# Altium integrated library TI Interface Display.IntLib: 133 symbols (part 5 of 16)
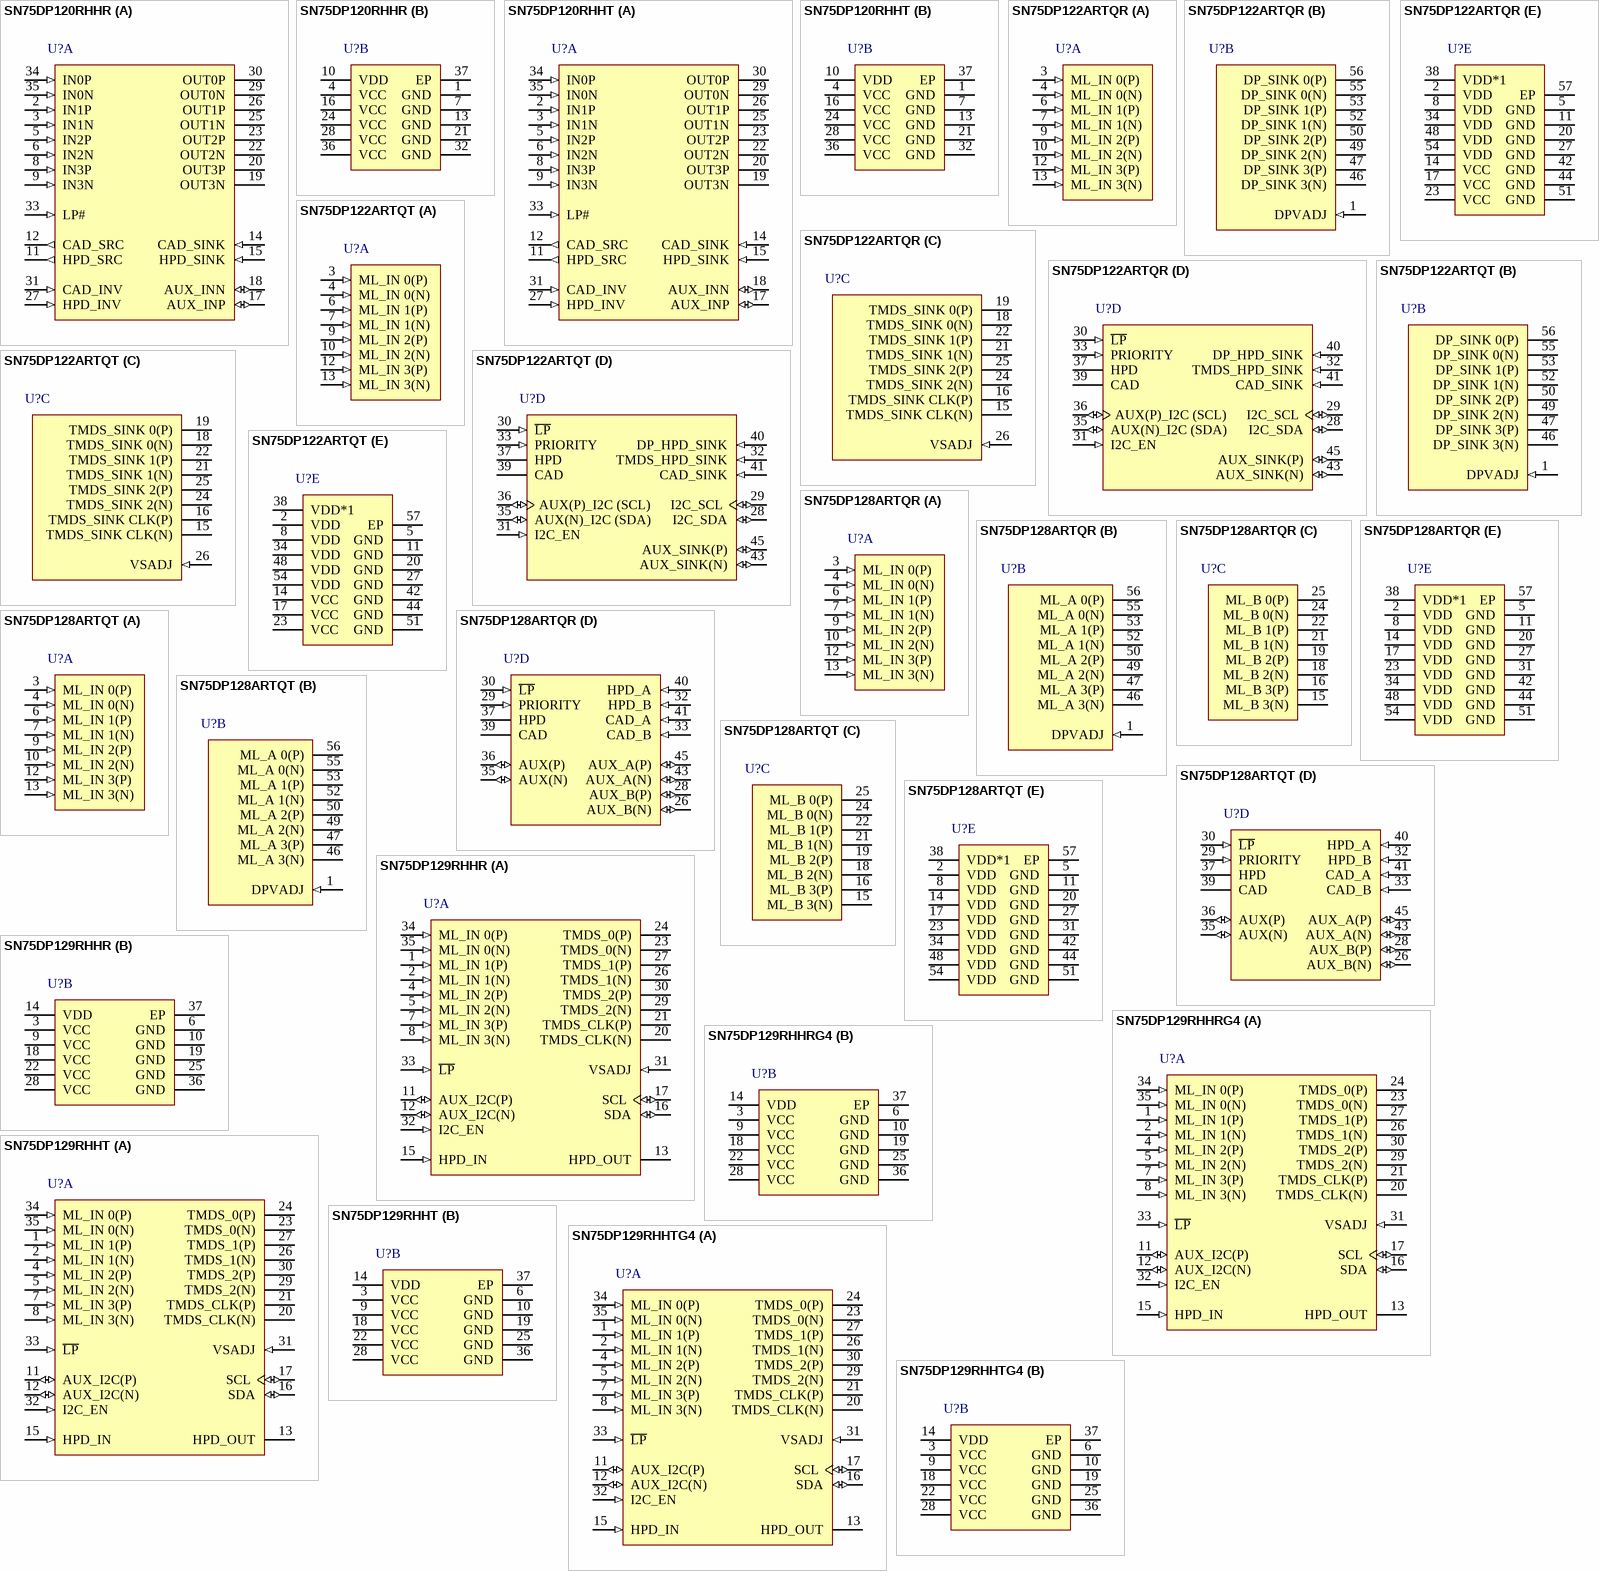
[diagram p18: symbols SN75DP120RHHR to SN75DP129RHHTG4]

## SN75DP120RHHR
designator U?
Display Port 1:1 Dual-Mode Repeater with 1 Dual Mode Output, 0 to +85 degC, 36-pin VQFN (RHH), Green (RoHS & no Sb/Br); Manufacturer: Texas Instruments; PartNumber: SN75DP120RHHR; No. of DisplayPort Dual Mode Inputs: 1; DatasheetVersion: SLLSE08; PackageVersion: revE,  Jun-2011; PackageReference: RHH36-4100X4100TP; PackageDescription: 36-Pin Plastic Quad Flatpack No-Lead, 6 x 6 mm Body, 0.5 mm Pitch; Supplier 1: Digi-Key; Supplier Part Number 1: 296-25399-2-ND; Supplier 2: Digi-Key; Supplier Part Number 2: 296-25399-1-ND; Supplier 3: Digi-Key; Supplier Part Number 3: 296-25399-6-ND; Supplier 4: Newark; Supplier Part Number 4: 55R6878; Supplier 5: Mouser; Supplier Part Number 5: 595-SN75DP120RHHR; No. of DisplayPort Dual Mode Outputs: 1; SubFamily: DisplayPort; Mounting Technology: Surface Mount; Code_JEDEC: MO-220; ComponentLink1Description: Datasheet; ComponentLink1URL: http://www.ti.com/general/docs/lit/getliterature.tsp?genericPartNumber=SN75DP120&fileType=pdf
footprint RHH36-4100X4100TP (QFN, 36-Leads, Body 6x6mm, Pitch 0.5mm, Thermal Pad 4.15x4.15mm, TI Recommended)
part A pins: 2 IN1P (in) "DisplayPort Main Link Channel 1 Differential Input", 3 IN1N (in) "DisplayPort Main Link Channel 1 Differential Input", 5 IN2P (in) "DisplayPort Main Link Channel 2 Differential Input", 6 IN2N (in) "DisplayPort Main Link Channel 2 Differential Input", 8 IN3P (in) "DisplayPort Main Link Channel 3 Differential Input", 9 IN3N (in) "DisplayPort Main Link Channel 3 Differential Input", 11 HPD_SRC (out) "Hot Plug Detect Output to the DisplayPort Source. The polarity and output level of HPD_SRC is set by the HPD_INV pin", 12 CAD_SRC (out) "Cable Adapter Detect Output to the DisplayPort Source. The polarity of CAD_SRC is set by the CAD_INV pin.", 14 CAD_SINK (in) "DisplayPort Cable Adapter Detect Input; No pulldown resistor on this pin.", 15 HPD_SINK (in) "Hot Plug Detect Input from DisplayPort Sink", 17 AUX_INP (io) "Bidirectional DisplayPort Auxiliary Data Line", 18 AUX_INN (io) "Bidirectional DisplayPort Auxiliary Data Line", 19 OUT3N (hiz) "DisplayPort Main Link Channel 3 Differential Output", 20 OUT3P (hiz) "DisplayPort Main Link Channel 3 Differential Output", 22 OUT2N (hiz) "DisplayPort Main Link Channel 2 Differential Output", 23 OUT2P (hiz) "DisplayPort Main Link Channel 2 Differential Output", 25 OUT1N (hiz) "DisplayPort Main Link Channel 1 Differential Output", 26 OUT1P (hiz) "DisplayPort Main Link Channel 1 Differential Output", 27 HPD_INV (in) "HPD output polarity Inversion pulldown When HPD_INV = H; HPD_SRC is set to INVERSE logic of HPD_SINK, and HPD_SRC VOH is fixed at 0.8V to 1.1V, i.e. not referenced to VDD When HPD_INV = L; HPD_SRC is set to NON-INVERSE logic (See Datasheet)", 29 OUT0N (hiz) "DisplayPort Main Link Channel 0 Differential Output", 30 OUT0P (hiz) "DisplayPort Main Link Channel 0 Differential Output", 31 CAD_INV (in) "CAD output polarity Inversion pulldown When CAD_INV = H; CAD_SRC is INVERSE logic of CAD_SINK When CAD_INV = L; CAD_SRC is NON-INVERSE logic of CAD_SINK", 33 LP# (in) "Low Power Shutdown Mode When LP# = H; Device in Active Mode When LP# = L; Device in Shutdown mode. All main link outputs are disabled and pulled to GND; Inputs ignored. HPD_SRC follows HPD_SINK. An external capacitor may be (See Datasheet)", 34 IN0P (in) "DisplayPort Main Link Channel 0 Differential Input", 35 IN0N (in) "DisplayPort Main Link Channel 0 Differential Input"
part B pins: 1 GND (power) "Ground", 4 VCC (power) "3.3V Supply", 7 GND (power) "Ground", 10 VDD (power) "HPD_SRC (when HPD_INV = H) and CAD_SRC Supply", 13 GND (power) "Ground", 16 VCC (power) "3.3V Supply", 21 GND (power) "Ground", 24 VCC (power) "3.3V Supply", 28 VCC (power) "3.3V Supply", 32 GND (power) "Ground", 36 VCC (power) "3.3V Supply", 37 EP "Exposed Pad"

## SN75DP120RHHT
designator U?
DisplayPort 1:1 Dual-Mode Repeater with 1 Dual Mode Output, 0 to +85 degC, 36-pin VQFN (RHH), Green (RoHS & no Sb/Br); Manufacturer: Texas Instruments; PartNumber: SN75DP120RHHT; No. of DisplayPort Dual Mode Inputs: 1; DatasheetVersion: SLLSE08; PackageVersion: revE,  Jun-2011; PackageReference: RHH36-4100X4100TP; PackageDescription: 36-Pin Plastic Quad Flatpack No-Lead, 6 x 6 mm Body, 0.5 mm Pitch; Supplier 1: Digi-Key; Supplier Part Number 1: SN75DP120RHHT-ND; Supplier 2: Newark; Supplier Part Number 2: 55R6879; Supplier 3: Mouser; Supplier Part Number 3: 595-SN75DP120RHHT; No. of DisplayPort Dual Mode Outputs: 1; SubFamily: DisplayPort; Mounting Technology: Surface Mount; Code_JEDEC: MO-220; ComponentLink1Description: Datasheet; ComponentLink1URL: http://www.ti.com/general/docs/lit/getliterature.tsp?genericPartNumber=SN75DP120&fileType=pdf
footprint RHH36-4100X4100TP (QFN, 36-Leads, Body 6x6mm, Pitch 0.5mm, Thermal Pad 4.15x4.15mm, TI Recommended)
part A pins: 2 IN1P (in) "DisplayPort Main Link Channel 1 Differential Input", 3 IN1N (in) "DisplayPort Main Link Channel 1 Differential Input", 5 IN2P (in) "DisplayPort Main Link Channel 2 Differential Input", 6 IN2N (in) "DisplayPort Main Link Channel 2 Differential Input", 8 IN3P (in) "DisplayPort Main Link Channel 3 Differential Input", 9 IN3N (in) "DisplayPort Main Link Channel 3 Differential Input", 11 HPD_SRC (out) "Hot Plug Detect Output to the DisplayPort Source. The polarity and output level of HPD_SRC is set by the HPD_INV pin", 12 CAD_SRC (out) "Cable Adapter Detect Output to the DisplayPort Source. The polarity of CAD_SRC is set by the CAD_INV pin.", 14 CAD_SINK (in) "DisplayPort Cable Adapter Detect Input; No pulldown resistor on this pin.", 15 HPD_SINK (in) "Hot Plug Detect Input from DisplayPort Sink", 17 AUX_INP (io) "Bidirectional DisplayPort Auxiliary Data Line", 18 AUX_INN (io) "Bidirectional DisplayPort Auxiliary Data Line", 19 OUT3N (hiz) "DisplayPort Main Link Channel 3 Differential Output", 20 OUT3P (hiz) "DisplayPort Main Link Channel 3 Differential Output", 22 OUT2N (hiz) "DisplayPort Main Link Channel 2 Differential Output", 23 OUT2P (hiz) "DisplayPort Main Link Channel 2 Differential Output", 25 OUT1N (hiz) "DisplayPort Main Link Channel 1 Differential Output", 26 OUT1P (hiz) "DisplayPort Main Link Channel 1 Differential Output", 27 HPD_INV (in) "HPD output polarity Inversion pulldown When HPD_INV = H; HPD_SRC is set to INVERSE logic of HPD_SINK, and HPD_SRC VOH is fixed at 0.8V to 1.1V, i.e. not referenced to VDD When HPD_INV = L; HPD_SRC is set to NON-INVERSE logic (See Datasheet)", 29 OUT0N (hiz) "DisplayPort Main Link Channel 0 Differential Output", 30 OUT0P (hiz) "DisplayPort Main Link Channel 0 Differential Output", 31 CAD_INV (in) "CAD output polarity Inversion pulldown When CAD_INV = H; CAD_SRC is INVERSE logic of CAD_SINK When CAD_INV = L; CAD_SRC is NON-INVERSE logic of CAD_SINK", 33 LP# (in) "Low Power Shutdown Mode When LP# = H; Device in Active Mode When LP# = L; Device in Shutdown mode. All main link outputs are disabled and pulled to GND; Inputs ignored. HPD_SRC follows HPD_SINK. An external capacitor may be (See Datasheet)", 34 IN0P (in) "DisplayPort Main Link Channel 0 Differential Input", 35 IN0N (in) "DisplayPort Main Link Channel 0 Differential Input"
part B pins: 1 GND (power) "Ground", 4 VCC (power) "3.3V Supply", 7 GND (power) "Ground", 10 VDD (power) "HPD_SRC (when HPD_INV = H) and CAD_SRC Supply", 13 GND (power) "Ground", 16 VCC (power) "3.3V Supply", 21 GND (power) "Ground", 24 VCC (power) "3.3V Supply", 28 VCC (power) "3.3V Supply", 32 GND (power) "Ground", 36 VCC (power) "3.3V Supply", 37 EP "Exposed Pad"

## SN75DP122ARTQR
designator U?
DisplayPort 1:2 Switch with Integrated TMDS Translator with 1 Dual Mode Output, 0 to +85 degC, 56-pin QFN (RTQ), Green (RoHS & no Sb/Br); Manufacturer: Texas Instruments; PartNumber: SN75DP122ARTQR; No. of DisplayPort Dual Mode Inputs: 1; DatasheetVersion: SLLS939; PackageVersion: revD, Aug-2011; PackageReference: RTQ56-4650X4650TP; PackageDescription: 56-Pin Plastic Quad Flatpack No-Lead, 8 x 8 mm Body, 0.5 mm Pitch; Supplier 1: Digi-Key; Supplier Part Number 1: 296-24185-2-ND; Supplier 2: Digi-Key; Supplier Part Number 2: 296-24185-1-ND; Supplier 3: Digi-Key; Supplier Part Number 3: 296-24185-6-ND; Supplier 4: Mouser; Supplier Part Number 4: 595-SN75DP122ARTQR; No. of DisplayPort Dual Mode Outputs: 1; No. of TMDS Outputs: 1; SubFamily: DisplayPort; Mounting Technology: Surface Mount; Code_JEDEC: MO-220; ComponentLink1Description: Datasheet; ComponentLink1URL: http://www.ti.com/general/docs/lit/getliterature.tsp?genericPartNumber=SN75DP122A&fileType=pdf
footprint RTQ56-4650X4650TP (QFN, 56-Leads, Body 8x8mm, Pitch 0.5mm, Thermal Pad 4.65x4.65mm, TI Recommended)
part A pins: 3 ML_IN 0(P) (in) "DisplayPort main link channel 0 differential input", 4 ML_IN 0(N) (in) "DisplayPort main link channel 0 differential input", 6 ML_IN 1(P) (in) "DisplayPort main link channel 1 differential input", 7 ML_IN 1(N) (in) "DisplayPort main link channel 1 differential input", 9 ML_IN 2(P) (in) "DisplayPort main link channel 2 differential input", 10 ML_IN 2(N) (in) "DisplayPort main link channel 2 differential input", 12 ML_IN 3(P) (in) "DisplayPort main link channel 3 differential input", 13 ML_IN 3(N) (in) "DisplayPort main link channel 3 differential input"
part B pins: 1 DPVADJ (in) "DisplayPort main link output gain adjustment", 46 DP_SINK 3(N) (hiz) "DisplayPort main link port a channel 3 differential output", 47 DP_SINK 3(P) (hiz) "DisplayPort main link port a channel 3 differential output", 49 DP_SINK 2(N) (hiz) "DisplayPort main link port a channel 2 differential output", 50 DP_SINK 2(P) (hiz) "DisplayPort main link port a channel 2 differential output", 52 DP_SINK 1(N) (hiz) "DisplayPort main link port a channel 1 differential output", 53 DP_SINK 1(P) (hiz) "DisplayPort main link port a channel 1 differential output", 55 DP_SINK 0(N) (hiz) "DisplayPort main link port a channel 0 differential output", 56 DP_SINK 0(P) (hiz) "DisplayPort main link port a channel 0 differential output"
part C pins: 15 TMDS_SINK CLK(N) (hiz) "TMDS data clock differential output", 16 TMDS_SINK CLK(P) (hiz) "TMDS data clock differential output", 18 TMDS_SINK 0(N) (hiz) "TMDS data 0 differential output", 19 TMDS_SINK 0(P) (hiz) "TMDS data 0 differential output", 21 TMDS_SINK 1(N) (hiz) "TMDS data 1 differential output", 22 TMDS_SINK 1(P) (hiz) "TMDS data 1 differential output", 24 TMDS_SINK 2(N) (hiz) "TMDS data 2 differential output", 25 TMDS_SINK 2(P) (hiz) "TMDS data 2 differential output", 26 VSADJ (in) "TMDS compliant voltage swing control"
part D pins: 28 I2C_SDA (io) "TMDS port bidirectional ddc data lines", 29 I2C_SCL (io) "TMDS port bidirectional ddc data lines", 30 ~{LP} (in) "Low power select bar", 31 I2C_EN (in) "Internal I2C register enable, used for HDMI / DVI connector differentiation", 32 TMDS_HPD_SINK (in) "TMDS port hot plug detect input", 33 PRIORITY (in) "Output port priority selection", 35 AUX(N)_I2C (SDA) (io) "Source side bidirectional displayport auxiliary data line", 36 AUX(P)_I2C (SCL) (io) "Source side bidirectional displayport auxiliary data line", 37 HPD (hiz) "Hot plug detect output to the displayport source", 39 CAD (hiz) "Cable adapter detect output to the displayport source", 40 DP_HPD_SINK (in) "DisplayPort port hot plug detect input", 41 CAD_SINK (in) "DisplayPort cable adapter detect input", 43 AUX_SINK(N) (io) "DisplayPort port bidirectional displayport auxiliary data line", 45 AUX_SINK(P) (io) "DisplayPort port bidirectional displayport auxiliary data line"
part E pins: 2 VDD (power) "5-V supply", 5 GND (power) "Ground", 8 VDD (power) "5-V supply", 11 GND (power) "Ground", 14 VCC (power) "3.3-V supply", 17 VCC (power) "3.3-V supply", 20 GND (power) "Ground", 23 VCC (power) "3.3-V supply", 27 GND (power) "Ground", 34 VDD (power) "5-V supply", 38 VDD*1 (power) "HPD/CAD supply", 42 GND (power) "Ground", 44 GND (power) "Ground", 48 VDD (power) "5-V supply", 51 GND (power) "Ground", 54 VDD (power) "5-V supply", 57 EP "Exposed Pad"

## SN75DP122ARTQT
designator U?
DisplayPort 1:2 Switch with Integrated TMDS Translator with 1 Dual Mode Output, 0 to +85 degC, 56-pin QFN (RTQ), Green (RoHS & no Sb/Br); Manufacturer: Texas Instruments; PartNumber: SN75DP122ARTQT; No. of DisplayPort Dual Mode Inputs: 1; DatasheetVersion: SLLS939; PackageVersion: revD, Aug-2011; PackageReference: RTQ56-4650X4650TP; PackageDescription: 56-Pin Plastic Quad Flatpack No-Lead, 8 x 8 mm Body, 0.5 mm Pitch; Supplier 1: Digi-Key; Supplier Part Number 1: SN75DP122ARTQT-ND; Supplier 2: Mouser; Supplier Part Number 2: 595-SN75DP122ARTQT; No. of DisplayPort Dual Mode Outputs: 1; No. of TMDS Outputs: 1; SubFamily: DisplayPort; Mounting Technology: Surface Mount; Code_JEDEC: MO-220; ComponentLink1Description: Datasheet; ComponentLink1URL: http://www.ti.com/general/docs/lit/getliterature.tsp?genericPartNumber=SN75DP122A&fileType=pdf
footprint RTQ56-4650X4650TP (QFN, 56-Leads, Body 8x8mm, Pitch 0.5mm, Thermal Pad 4.65x4.65mm, TI Recommended)
part A pins: 3 ML_IN 0(P) (in) "DisplayPort main link channel 0 differential input", 4 ML_IN 0(N) (in) "DisplayPort main link channel 0 differential input", 6 ML_IN 1(P) (in) "DisplayPort main link channel 1 differential input", 7 ML_IN 1(N) (in) "DisplayPort main link channel 1 differential input", 9 ML_IN 2(P) (in) "DisplayPort main link channel 2 differential input", 10 ML_IN 2(N) (in) "DisplayPort main link channel 2 differential input", 12 ML_IN 3(P) (in) "DisplayPort main link channel 3 differential input", 13 ML_IN 3(N) (in) "DisplayPort main link channel 3 differential input"
part B pins: 1 DPVADJ (in) "DisplayPort main link output gain adjustment", 46 DP_SINK 3(N) (hiz) "DisplayPort main link port a channel 3 differential output", 47 DP_SINK 3(P) (hiz) "DisplayPort main link port a channel 3 differential output", 49 DP_SINK 2(N) (hiz) "DisplayPort main link port a channel 2 differential output", 50 DP_SINK 2(P) (hiz) "DisplayPort main link port a channel 2 differential output", 52 DP_SINK 1(N) (hiz) "DisplayPort main link port a channel 1 differential output", 53 DP_SINK 1(P) (hiz) "DisplayPort main link port a channel 1 differential output", 55 DP_SINK 0(N) (hiz) "DisplayPort main link port a channel 0 differential output", 56 DP_SINK 0(P) (hiz) "DisplayPort main link port a channel 0 differential output"
part C pins: 15 TMDS_SINK CLK(N) (hiz) "TMDS data clock differential output", 16 TMDS_SINK CLK(P) (hiz) "TMDS data clock differential output", 18 TMDS_SINK 0(N) (hiz) "TMDS data 0 differential output", 19 TMDS_SINK 0(P) (hiz) "TMDS data 0 differential output", 21 TMDS_SINK 1(N) (hiz) "TMDS data 1 differential output", 22 TMDS_SINK 1(P) (hiz) "TMDS data 1 differential output", 24 TMDS_SINK 2(N) (hiz) "TMDS data 2 differential output", 25 TMDS_SINK 2(P) (hiz) "TMDS data 2 differential output", 26 VSADJ (in) "TMDS compliant voltage swing control"
part D pins: 28 I2C_SDA (io) "TMDS port bidirectional ddc data lines", 29 I2C_SCL (io) "TMDS port bidirectional ddc data lines", 30 ~{LP} (in) "Low power select bar", 31 I2C_EN (in) "Internal I2C register enable, used for HDMI / DVI connector differentiation", 32 TMDS_HPD_SINK (in) "TMDS port hot plug detect input", 33 PRIORITY (in) "Output port priority selection", 35 AUX(N)_I2C (SDA) (io) "Source side bidirectional displayport auxiliary data line", 36 AUX(P)_I2C (SCL) (io) "Source side bidirectional displayport auxiliary data line", 37 HPD (hiz) "Hot plug detect output to the displayport source", 39 CAD (hiz) "Cable adapter detect output to the displayport source", 40 DP_HPD_SINK (in) "DisplayPort port hot plug detect input", 41 CAD_SINK (in) "DisplayPort cable adapter detect input", 43 AUX_SINK(N) (io) "DisplayPort port bidirectional displayport auxiliary data line", 45 AUX_SINK(P) (io) "DisplayPort port bidirectional displayport auxiliary data line"
part E pins: 2 VDD (power) "5-V supply", 5 GND (power) "Ground", 8 VDD (power) "5-V supply", 11 GND (power) "Ground", 14 VCC (power) "3.3-V supply", 17 VCC (power) "3.3-V supply", 20 GND (power) "Ground", 23 VCC (power) "3.3-V supply", 27 GND (power) "Ground", 34 VDD (power) "5-V supply", 38 VDD*1 (power) "HPD/CAD supply", 42 GND (power) "Ground", 44 GND (power) "Ground", 48 VDD (power) "5-V supply", 51 GND (power) "Ground", 54 VDD (power) "5-V supply", 57 EP "Exposed Pad"

## SN75DP128ARTQR
designator U?
DisplayPort 1:2 Switch with 2 Dual Mode Outputs, 0 to +85 degC, 56-pin QFN (RTQ), Green (RoHS & no Sb/Br); Manufacturer: Texas Instruments; PartNumber: SN75DP128ARTQR; No. of DisplayPort Dual Mode Inputs: 1; No. of DisplayPort Dual Mode Outputs: 2; DatasheetVersion: SLLS940; PackageVersion: revD, Aug-2011; PackageReference: RTQ56-4650X4650TP; PackageDescription: 56-Pin Plastic Quad Flatpack No-Lead, 8 x 8 mm Body, 0.5 mm Pitch; Supplier 1: Digi-Key; Supplier Part Number 1: 296-24004-2-ND; Supplier 2: Digi-Key; Supplier Part Number 2: 296-24004-1-ND; Supplier 3: Digi-Key; Supplier Part Number 3: 296-24004-6-ND; Supplier 4: Mouser; Supplier Part Number 4: 595-SN75DP128ARTQR; SubFamily: DisplayPort; Mounting Technology: Surface Mount; Code_JEDEC: MO-220; ComponentLink1Description: Datasheet; ComponentLink1URL: http://www.ti.com/general/docs/lit/getliterature.tsp?genericPartNumber=SN75DP128A&fileType=pdf
footprint RTQ56-4650X4650TP (QFN, 56-Leads, Body 8x8mm, Pitch 0.5mm, Thermal Pad 4.65x4.65mm, TI Recommended)
part A pins: 3 ML_IN 0(P) (in) "DisplayPort Main Link Channel 0 Differential Input", 4 ML_IN 0(N) (in) "DisplayPort Main Link Channel 0 Differential Input", 6 ML_IN 1(P) (in) "DisplayPort Main Link Channel 1 Differential Input", 7 ML_IN 1(N) (in) "DisplayPort Main Link Channel 1 Differential Input", 9 ML_IN 2(P) (in) "DisplayPort Main Link Channel 2 Differential Input", 10 ML_IN 2(N) (in) "DisplayPort Main Link Channel 2 Differential Input", 12 ML_IN 3(P) (in) "DisplayPort Main Link Channel 3 Differential Input", 13 ML_IN 3(N) (in) "DisplayPort Main Link Channel 3 Differential Input"
part B pins: 1 DPVADJ (in) "DisplayPort Main Link Output Gain Adjustment", 46 ML_A 3(N) (hiz) "DisplayPort Main Link Port A Channel 3 Differential Output", 47 ML_A 3(P) (hiz) "DisplayPort Main Link Port A Channel 3 Differential Output", 49 ML_A 2(N) (hiz) "DisplayPort Main Link Port A Channel 2 Differential Output", 50 ML_A 2(P) (hiz) "DisplayPort Main Link Port A Channel 2 Differential Output", 52 ML_A 1(N) (hiz) "DisplayPort Main Link Port A Channel 1 Differential Output", 53 ML_A 1(P) (hiz) "DisplayPort Main Link Port A Channel 1 Differential Output", 55 ML_A 0(N) (hiz) "DisplayPort Main Link Port A Channel 0 Differential Output", 56 ML_A 0(P) (hiz) "DisplayPort Main Link Port A Channel 0 Differential Output"
part C pins: 15 ML_B 3(N) (hiz) "DisplayPort Main Link Port B Channel 3 Differential Output", 16 ML_B 3(P) (hiz) "DisplayPort Main Link Port B Channel 3 Differential Output", 18 ML_B 2(N) (hiz) "DisplayPort Main Link Port B Channel 2 Differential Output", 19 ML_B 2(P) (hiz) "DisplayPort Main Link Port B Channel 2 Differential Output", 21 ML_B 1(N) (hiz) "DisplayPort Main Link Port B Channel 1 Differential Output", 22 ML_B 1(P) (hiz) "DisplayPort Main Link Port B Channel 1 Differential Output", 24 ML_B 0(N) (hiz) "DisplayPort Main Link Port B Channel 0 Differential Output", 25 ML_B 0(P) (hiz) "DisplayPort Main Link Port B Channel 0 Differential Output"
part D pins: 26 AUX_B(N) (io) "Port B Bidirectional DisplayPort Auxiliary Data Line", 28 AUX_B(P) (io) "Port B Bidirectional DisplayPort Auxiliary Data Line", 29 PRIORITY (in) "Output Port Priority selection", 30 ~{LP} (in) "Low Power Select Bar", 32 HPD_B (in) "Port B hot Plug Detect Input", 33 CAD_B (in) "Port B Cable Adapter Detect Input", 35 AUX(N) (io) "Source Side Bidirectional DisplayPort Auxiliary Data Line", 36 AUX(P) (io) "Source Side Bidirectional DisplayPort Auxiliary Data Line", 37 HPD (hiz) "Hot Plug Detect Output to the DisplayPort Source", 39 CAD (hiz) "Cable Adapter Detect Output to the DisplayPort Source", 40 HPD_A (in) "Port A Hot Plug Detect Input", 41 CAD_A (in) "Port A Cable Adapter Detect Input", 43 AUX_A(N) (io) "Port A Bidirectional DisplayPort Auxiliary Data Line", 45 AUX_A(P) (io) "Port A Bidirectional DisplayPort Auxiliary Data Line"
part E pins: 2 VDD (power) "Primary Supply Voltage", 5 GND (power) "Ground", 8 VDD (power) "Primary Supply Voltage", 11 GND (power) "Ground", 14 VDD (power) "Primary Supply Voltage", 17 VDD (power) "Primary Supply Voltage", 20 GND (power) "Ground", 23 VDD (power) "Primary Supply Voltage", 27 GND (power) "Ground", 31 GND (power) "Ground", 34 VDD (power) "Primary Supply Voltage", 38 VDD*1 (power) "HPD and CAD Output Voltage", 42 GND (power) "Ground", 44 GND (power) "Ground", 48 VDD (power) "Primary Supply Voltage", 51 GND (power) "Ground", 54 VDD (power) "Primary Supply Voltage", 57 EP "Exposed Pad"

## SN75DP128ARTQT
designator U?
DisplayPort 1:2 Switch with 2 Dual Mode Outputs, 0 to +85 degC, 56-pin QFN (RTQ), Green (RoHS & no Sb/Br); Manufacturer: Texas Instruments; PartNumber: SN75DP128ARTQT; No. of DisplayPort Dual Mode Inputs: 1; No. of DisplayPort Dual Mode Outputs: 2; DatasheetVersion: SLLS940; PackageVersion: revD, Aug-2011; PackageReference: RTQ56-4650X4650TP; PackageDescription: 56-Pin Plastic Quad Flatpack No-Lead, 8 x 8 mm Body, 0.5 mm Pitch; Supplier 1: Digi-Key; Supplier Part Number 1: SN75DP128ARTQT-ND; Supplier 2: Mouser; Supplier Part Number 2: 595-SN75DP128ARTQT; SubFamily: DisplayPort; Mounting Technology: Surface Mount; Code_JEDEC: MO-220; ComponentLink1Description: Datasheet; ComponentLink1URL: http://www.ti.com/general/docs/lit/getliterature.tsp?genericPartNumber=SN75DP128A&fileType=pdf
footprint RTQ56-4650X4650TP (QFN, 56-Leads, Body 8x8mm, Pitch 0.5mm, Thermal Pad 4.65x4.65mm, TI Recommended)
part A pins: 3 ML_IN 0(P) (in) "DisplayPort Main Link Channel 0 Differential Input", 4 ML_IN 0(N) (in) "DisplayPort Main Link Channel 0 Differential Input", 6 ML_IN 1(P) (in) "DisplayPort Main Link Channel 1 Differential Input", 7 ML_IN 1(N) (in) "DisplayPort Main Link Channel 1 Differential Input", 9 ML_IN 2(P) (in) "DisplayPort Main Link Channel 2 Differential Input", 10 ML_IN 2(N) (in) "DisplayPort Main Link Channel 2 Differential Input", 12 ML_IN 3(P) (in) "DisplayPort Main Link Channel 3 Differential Input", 13 ML_IN 3(N) (in) "DisplayPort Main Link Channel 3 Differential Input"
part B pins: 1 DPVADJ (in) "DisplayPort Main Link Output Gain Adjustment", 46 ML_A 3(N) (hiz) "DisplayPort Main Link Port A Channel 3 Differential Output", 47 ML_A 3(P) (hiz) "DisplayPort Main Link Port A Channel 3 Differential Output", 49 ML_A 2(N) (hiz) "DisplayPort Main Link Port A Channel 2 Differential Output", 50 ML_A 2(P) (hiz) "DisplayPort Main Link Port A Channel 2 Differential Output", 52 ML_A 1(N) (hiz) "DisplayPort Main Link Port A Channel 1 Differential Output", 53 ML_A 1(P) (hiz) "DisplayPort Main Link Port A Channel 1 Differential Output", 55 ML_A 0(N) (hiz) "DisplayPort Main Link Port A Channel 0 Differential Output", 56 ML_A 0(P) (hiz) "DisplayPort Main Link Port A Channel 0 Differential Output"
part C pins: 15 ML_B 3(N) (hiz) "DisplayPort Main Link Port B Channel 3 Differential Output", 16 ML_B 3(P) (hiz) "DisplayPort Main Link Port B Channel 3 Differential Output", 18 ML_B 2(N) (hiz) "DisplayPort Main Link Port B Channel 2 Differential Output", 19 ML_B 2(P) (hiz) "DisplayPort Main Link Port B Channel 2 Differential Output", 21 ML_B 1(N) (hiz) "DisplayPort Main Link Port B Channel 1 Differential Output", 22 ML_B 1(P) (hiz) "DisplayPort Main Link Port B Channel 1 Differential Output", 24 ML_B 0(N) (hiz) "DisplayPort Main Link Port B Channel 0 Differential Output", 25 ML_B 0(P) (hiz) "DisplayPort Main Link Port B Channel 0 Differential Output"
part D pins: 26 AUX_B(N) (io) "Port B Bidirectional DisplayPort Auxiliary Data Line", 28 AUX_B(P) (io) "Port B Bidirectional DisplayPort Auxiliary Data Line", 29 PRIORITY (in) "Output Port Priority selection", 30 ~{LP} (in) "Low Power Select Bar", 32 HPD_B (in) "Port B hot Plug Detect Input", 33 CAD_B (in) "Port B Cable Adapter Detect Input", 35 AUX(N) (io) "Source Side Bidirectional DisplayPort Auxiliary Data Line", 36 AUX(P) (io) "Source Side Bidirectional DisplayPort Auxiliary Data Line", 37 HPD (hiz) "Hot Plug Detect Output to the DisplayPort Source", 39 CAD (hiz) "Cable Adapter Detect Output to the DisplayPort Source", 40 HPD_A (in) "Port A Hot Plug Detect Input", 41 CAD_A (in) "Port A Cable Adapter Detect Input", 43 AUX_A(N) (io) "Port A Bidirectional DisplayPort Auxiliary Data Line", 45 AUX_A(P) (io) "Port A Bidirectional DisplayPort Auxiliary Data Line"
part E pins: 2 VDD (power) "Primary Supply Voltage", 5 GND (power) "Ground", 8 VDD (power) "Primary Supply Voltage", 11 GND (power) "Ground", 14 VDD (power) "Primary Supply Voltage", 17 VDD (power) "Primary Supply Voltage", 20 GND (power) "Ground", 23 VDD (power) "Primary Supply Voltage", 27 GND (power) "Ground", 31 GND (power) "Ground", 34 VDD (power) "Primary Supply Voltage", 38 VDD*1 (power) "HPD and CAD Output Voltage", 42 GND (power) "Ground", 44 GND (power) "Ground", 48 VDD (power) "Primary Supply Voltage", 51 GND (power) "Ground", 54 VDD (power) "Primary Supply Voltage", 57 EP "Exposed Pad"

## SN75DP129RHHR
designator U?
DisplayPort to TMDS Translator, 0 to +85 degC, 36-pin VQFN (RHH), Green (RoHS & no Sb/Br); Manufacturer: Texas Instruments; PartNumber: SN75DP129RHHR; No. of DisplayPort Dual Mode Inputs: 1; DatasheetVersion: SLAS583A; PackageVersion: revE,  Jun-2011; PackageReference: RHH36-4100X4100TP; PackageDescription: 36-Pin Plastic Quad Flatpack No-Lead, 6 x 6 mm Body, 0.5 mm Pitch; Supplier 1: Digi-Key; Supplier Part Number 1: 296-23096-2-ND; Supplier 2: Digi-Key; Supplier Part Number 2: 296-23096-1-ND; Supplier 3: Digi-Key; Supplier Part Number 3: 296-23096-6-ND; Supplier 4: Newark; Supplier Part Number 4: 85M0114; Supplier 5: Mouser; Supplier Part Number 5: 595-SN75DP129RHHR; No. of TMDS Outputs: 1; SubFamily: DisplayPort; Mounting Technology: Surface Mount; Code_JEDEC: MO-220; ComponentLink1Description: Datasheet; ComponentLink1URL: http://www.ti.com/general/docs/lit/getliterature.tsp?genericPartNumber=SN75DP129&fileType=pdf
footprint RHH36-4100X4100TP (QFN, 36-Leads, Body 6x6mm, Pitch 0.5mm, Thermal Pad 4.15x4.15mm, TI Recommended)
part A pins: 1 ML_IN 1(P) (in) "DisplayPort Main Link Channel 1 Differential Input", 2 ML_IN 1(N) (in) "DisplayPort Main Link Channel 1 Differential Input", 4 ML_IN 2(P) (in) "DisplayPort Main Link Channel 2 Differential Input", 5 ML_IN 2(N) (in) "DisplayPort Main Link Channel 2 Differential Input", 7 ML_IN 3(P) (in) "DisplayPort Main Link Channel 3 Differential Input", 8 ML_IN 3(N) (in) "DisplayPort Main Link Channel 3 Differential Input", 11 AUX_I2C(P) (io) "Source Side Bidirectional DisplayPort Auxiliary Data Line", 12 AUX_I2C(N) (io) "Source Side Bidirectional DisplayPort Auxiliary Data Line", 13 HPD_OUT (hiz) "Hot Plug Detect (HPD) Output", 15 HPD_IN (in) "Hot Plug Detect (HPD) Input", 16 SDA (io) "TMDS Port Bidirectional I2C Data Line", 17 SCL (io) "TMDS Port Bidirectional I2C Clock Line", 20 TMDS_CLK(N) (hiz) "TMDS Data Clock Differential Output", 21 TMDS_CLK(P) (hiz) "TMDS Data Clock Differential Output", 23 TMDS_0(N) (hiz) "TMDS Data 0Differential Output", 24 TMDS_0(P) (hiz) "TMDS Data 0Differential Output", 26 TMDS_1(N) (hiz) "TMDS Data 1 Differential Output", 27 TMDS_1(P) (hiz) "TMDS Data 1 Differential Output", 29 TMDS_2(N) (hiz) "TMDS Data 2 Differential Output", 30 TMDS_2(P) (hiz) "TMDS Data 2 Differential Output", 31 VSADJ (in) "TMDS-Compliant Voltage Swing Control", 32 I2C_EN (in) "Internal I2C register enable, used for HDMI / DVI connector differentiation", 33 ~{LP} (in) "Low Power Select Bar", 34 ML_IN 0(P) (in) "DisplayPort Main Link Channel 0 Differential Input", 35 ML_IN 0(N) (in) "DisplayPort Main Link Channel 0 Differential Input"
part B pins: 3 VCC (power) "3.3 V Supply", 6 GND (power) "Ground", 9 VCC (power) "3.3 V Supply", 10 GND (power) "Ground", 14 VDD (power) "HPD Supply", 18 VCC (power) "3.3 V Supply", 19 GND (power) "Ground", 22 VCC (power) "3.3 V Supply", 25 GND (power) "Ground", 28 VCC (power) "3.3 V Supply", 36 GND (power) "Ground", 37 EP "Exposed Pad"

## SN75DP129RHHRG4
designator U?
DisplayPort to TMDS Translator, 0 to +85 degC, 36-pin VQFN (RHH), Green (RoHS & no Sb/Br); Manufacturer: Texas Instruments; PartNumber: SN75DP129RHHRG4; No. of DisplayPort Dual Mode Inputs: 1; DatasheetVersion: SLAS583A; PackageVersion: revE,  Jun-2011; PackageReference: RHH36-4100X4100TP; PackageDescription: 36-Pin Plastic Quad Flatpack No-Lead, 6 x 6 mm Body, 0.5 mm Pitch; Supplier 1: Digi-Key; Supplier Part Number 1: SN75DP129RHHRG4-ND; Supplier 2: Newark; Supplier Part Number 2: 94M9641; Supplier 3: Mouser; Supplier Part Number 3: 595-SN75DP129RHHRG4; No. of TMDS Outputs: 1; SubFamily: DisplayPort; Mounting Technology: Surface Mount; Code_JEDEC: MO-220; ComponentLink1Description: Datasheet; ComponentLink1URL: http://www.ti.com/general/docs/lit/getliterature.tsp?genericPartNumber=SN75DP129&fileType=pdf
footprint RHH36-4100X4100TP (QFN, 36-Leads, Body 6x6mm, Pitch 0.5mm, Thermal Pad 4.15x4.15mm, TI Recommended)
part A pins: 1 ML_IN 1(P) (in) "DisplayPort Main Link Channel 1 Differential Input", 2 ML_IN 1(N) (in) "DisplayPort Main Link Channel 1 Differential Input", 4 ML_IN 2(P) (in) "DisplayPort Main Link Channel 2 Differential Input", 5 ML_IN 2(N) (in) "DisplayPort Main Link Channel 2 Differential Input", 7 ML_IN 3(P) (in) "DisplayPort Main Link Channel 3 Differential Input", 8 ML_IN 3(N) (in) "DisplayPort Main Link Channel 3 Differential Input", 11 AUX_I2C(P) (io) "Source Side Bidirectional DisplayPort Auxiliary Data Line", 12 AUX_I2C(N) (io) "Source Side Bidirectional DisplayPort Auxiliary Data Line", 13 HPD_OUT (hiz) "Hot Plug Detect (HPD) Output", 15 HPD_IN (in) "Hot Plug Detect (HPD) Input", 16 SDA (io) "TMDS Port Bidirectional I2C Data Line", 17 SCL (io) "TMDS Port Bidirectional I2C Clock Line", 20 TMDS_CLK(N) (hiz) "TMDS Data Clock Differential Output", 21 TMDS_CLK(P) (hiz) "TMDS Data Clock Differential Output", 23 TMDS_0(N) (hiz) "TMDS Data 0Differential Output", 24 TMDS_0(P) (hiz) "TMDS Data 0Differential Output", 26 TMDS_1(N) (hiz) "TMDS Data 1 Differential Output", 27 TMDS_1(P) (hiz) "TMDS Data 1 Differential Output", 29 TMDS_2(N) (hiz) "TMDS Data 2 Differential Output", 30 TMDS_2(P) (hiz) "TMDS Data 2 Differential Output", 31 VSADJ (in) "TMDS-Compliant Voltage Swing Control", 32 I2C_EN (in) "Internal I2C register enable, used for HDMI / DVI connector differentiation", 33 ~{LP} (in) "Low Power Select Bar", 34 ML_IN 0(P) (in) "DisplayPort Main Link Channel 0 Differential Input", 35 ML_IN 0(N) (in) "DisplayPort Main Link Channel 0 Differential Input"
part B pins: 3 VCC (power) "3.3 V Supply", 6 GND (power) "Ground", 9 VCC (power) "3.3 V Supply", 10 GND (power) "Ground", 14 VDD (power) "HPD Supply", 18 VCC (power) "3.3 V Supply", 19 GND (power) "Ground", 22 VCC (power) "3.3 V Supply", 25 GND (power) "Ground", 28 VCC (power) "3.3 V Supply", 36 GND (power) "Ground", 37 EP "Exposed Pad"

## SN75DP129RHHT
designator U?
DisplayPort to TMDS Translator, 0 to +85 degC, 36-pin VQFN (RHH), Green (RoHS & no Sb/Br); Manufacturer: Texas Instruments; PartNumber: SN75DP129RHHT; No. of DisplayPort Dual Mode Inputs: 1; DatasheetVersion: SLAS583A; PackageVersion: revE,  Jun-2011; PackageReference: RHH36-4100X4100TP; PackageDescription: 36-Pin Plastic Quad Flatpack No-Lead, 6 x 6 mm Body, 0.5 mm Pitch; Supplier 1: Digi-Key; Supplier Part Number 1: 296-32337-2-ND; Supplier 2: Digi-Key; Supplier Part Number 2: 296-32337-1-ND; Supplier 3: Digi-Key; Supplier Part Number 3: 296-32337-6-ND; Supplier 4: Newark; Supplier Part Number 4: 85M0115; Supplier 5: Mouser; Supplier Part Number 5: 595-SN75DP129RHHT; No. of TMDS Outputs: 1; SubFamily: DisplayPort; Mounting Technology: Surface Mount; Code_JEDEC: MO-220; ComponentLink1Description: Datasheet; ComponentLink1URL: http://www.ti.com/general/docs/lit/getliterature.tsp?genericPartNumber=SN75DP129&fileType=pdf
footprint RHH36-4100X4100TP (QFN, 36-Leads, Body 6x6mm, Pitch 0.5mm, Thermal Pad 4.15x4.15mm, TI Recommended)
part A pins: 1 ML_IN 1(P) (in) "DisplayPort Main Link Channel 1 Differential Input", 2 ML_IN 1(N) (in) "DisplayPort Main Link Channel 1 Differential Input", 4 ML_IN 2(P) (in) "DisplayPort Main Link Channel 2 Differential Input", 5 ML_IN 2(N) (in) "DisplayPort Main Link Channel 2 Differential Input", 7 ML_IN 3(P) (in) "DisplayPort Main Link Channel 3 Differential Input", 8 ML_IN 3(N) (in) "DisplayPort Main Link Channel 3 Differential Input", 11 AUX_I2C(P) (io) "Source Side Bidirectional DisplayPort Auxiliary Data Line", 12 AUX_I2C(N) (io) "Source Side Bidirectional DisplayPort Auxiliary Data Line", 13 HPD_OUT (hiz) "Hot Plug Detect (HPD) Output", 15 HPD_IN (in) "Hot Plug Detect (HPD) Input", 16 SDA (io) "TMDS Port Bidirectional I2C Data Line", 17 SCL (io) "TMDS Port Bidirectional I2C Clock Line", 20 TMDS_CLK(N) (hiz) "TMDS Data Clock Differential Output", 21 TMDS_CLK(P) (hiz) "TMDS Data Clock Differential Output", 23 TMDS_0(N) (hiz) "TMDS Data 0Differential Output", 24 TMDS_0(P) (hiz) "TMDS Data 0Differential Output", 26 TMDS_1(N) (hiz) "TMDS Data 1 Differential Output", 27 TMDS_1(P) (hiz) "TMDS Data 1 Differential Output", 29 TMDS_2(N) (hiz) "TMDS Data 2 Differential Output", 30 TMDS_2(P) (hiz) "TMDS Data 2 Differential Output", 31 VSADJ (in) "TMDS-Compliant Voltage Swing Control", 32 I2C_EN (in) "Internal I2C register enable, used for HDMI / DVI connector differentiation", 33 ~{LP} (in) "Low Power Select Bar", 34 ML_IN 0(P) (in) "DisplayPort Main Link Channel 0 Differential Input", 35 ML_IN 0(N) (in) "DisplayPort Main Link Channel 0 Differential Input"
part B pins: 3 VCC (power) "3.3 V Supply", 6 GND (power) "Ground", 9 VCC (power) "3.3 V Supply", 10 GND (power) "Ground", 14 VDD (power) "HPD Supply", 18 VCC (power) "3.3 V Supply", 19 GND (power) "Ground", 22 VCC (power) "3.3 V Supply", 25 GND (power) "Ground", 28 VCC (power) "3.3 V Supply", 36 GND (power) "Ground", 37 EP "Exposed Pad"

## SN75DP129RHHTG4
designator U?
DisplayPort to TMDS Translator, 0 to +85 degC, 36-pin VQFN (RHH), Green (RoHS & no Sb/Br); Manufacturer: Texas Instruments; PartNumber: SN75DP129RHHTG4; No. of DisplayPort Dual Mode Inputs: 1; DatasheetVersion: SLAS583A; PackageVersion: revE,  Jun-2011; PackageReference: RHH36-4100X4100TP; PackageDescription: 36-Pin Plastic Quad Flatpack No-Lead, 6 x 6 mm Body, 0.5 mm Pitch; Supplier 1: Digi-Key; Supplier Part Number 1: SN75DP129RHHTG4-ND; Supplier 2: Newark; Supplier Part Number 2: 94M9642; Supplier 3: Mouser; Supplier Part Number 3: 595-SN75DP129RHHTG4; No. of TMDS Outputs: 1; SubFamily: DisplayPort; Mounting Technology: Surface Mount; Code_JEDEC: MO-220; ComponentLink1Description: Datasheet; ComponentLink1URL: http://www.ti.com/general/docs/lit/getliterature.tsp?genericPartNumber=SN75DP129&fileType=pdf
footprint RHH36-4100X4100TP (QFN, 36-Leads, Body 6x6mm, Pitch 0.5mm, Thermal Pad 4.15x4.15mm, TI Recommended)
part A pins: 1 ML_IN 1(P) (in) "DisplayPort Main Link Channel 1 Differential Input", 2 ML_IN 1(N) (in) "DisplayPort Main Link Channel 1 Differential Input", 4 ML_IN 2(P) (in) "DisplayPort Main Link Channel 2 Differential Input", 5 ML_IN 2(N) (in) "DisplayPort Main Link Channel 2 Differential Input", 7 ML_IN 3(P) (in) "DisplayPort Main Link Channel 3 Differential Input", 8 ML_IN 3(N) (in) "DisplayPort Main Link Channel 3 Differential Input", 11 AUX_I2C(P) (io) "Source Side Bidirectional DisplayPort Auxiliary Data Line", 12 AUX_I2C(N) (io) "Source Side Bidirectional DisplayPort Auxiliary Data Line", 13 HPD_OUT (hiz) "Hot Plug Detect (HPD) Output", 15 HPD_IN (in) "Hot Plug Detect (HPD) Input", 16 SDA (io) "TMDS Port Bidirectional I2C Data Line", 17 SCL (io) "TMDS Port Bidirectional I2C Clock Line", 20 TMDS_CLK(N) (hiz) "TMDS Data Clock Differential Output", 21 TMDS_CLK(P) (hiz) "TMDS Data Clock Differential Output", 23 TMDS_0(N) (hiz) "TMDS Data 0Differential Output", 24 TMDS_0(P) (hiz) "TMDS Data 0Differential Output", 26 TMDS_1(N) (hiz) "TMDS Data 1 Differential Output", 27 TMDS_1(P) (hiz) "TMDS Data 1 Differential Output", 29 TMDS_2(N) (hiz) "TMDS Data 2 Differential Output", 30 TMDS_2(P) (hiz) "TMDS Data 2 Differential Output", 31 VSADJ (in) "TMDS-Compliant Voltage Swing Control", 32 I2C_EN (in) "Internal I2C register enable, used for HDMI / DVI connector differentiation", 33 ~{LP} (in) "Low Power Select Bar", 34 ML_IN 0(P) (in) "DisplayPort Main Link Channel 0 Differential Input", 35 ML_IN 0(N) (in) "DisplayPort Main Link Channel 0 Differential Input"
part B pins: 3 VCC (power) "3.3 V Supply", 6 GND (power) "Ground", 9 VCC (power) "3.3 V Supply", 10 GND (power) "Ground", 14 VDD (power) "HPD Supply", 18 VCC (power) "3.3 V Supply", 19 GND (power) "Ground", 22 VCC (power) "3.3 V Supply", 25 GND (power) "Ground", 28 VCC (power) "3.3 V Supply", 36 GND (power) "Ground", 37 EP "Exposed Pad"

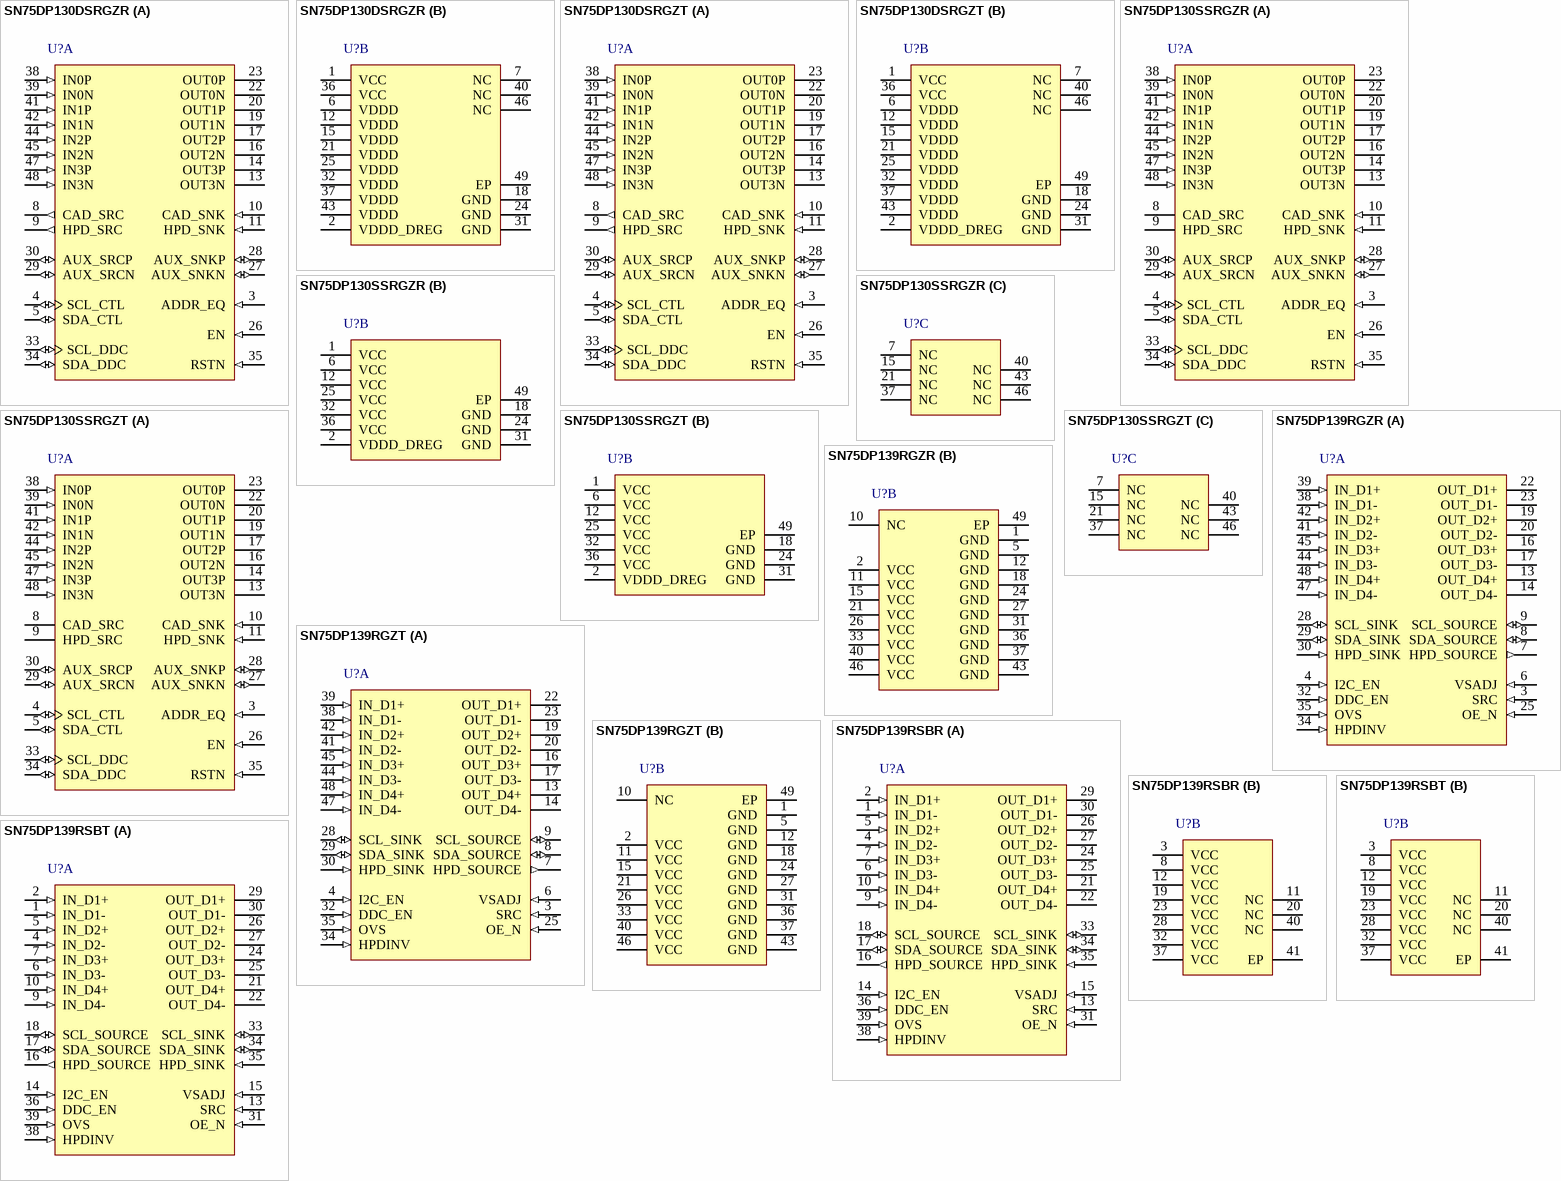
[diagram p5: symbols SN75DP130DSRGZR to SN75DP139RSBT]

## SN75DP130DSRGZR
designator U?
DisplayPort v1.2 (5.4Gbps) Re-Driver with Link Training, 0 to +85 degC, 48-pin VQFN (RGZ), Green (RoHS & no Sb/Br); Manufacturer: Texas Instruments; PartNumber: SN75DP130DSRGZR; No. of DisplayPort Dual Mode Inputs: 1; DatasheetVersion: SLLSE57B; PackageVersion: revF, Jun-2011; PackageReference: RGZ48-5600X5600TP; PackageDescription: 48-Pin Plastic Quad Flatpack No-Lead, 7 x 7 mm Body, 0.5 mm Pitch; Supplier 1: Digi-Key; Supplier Part Number 1: 296-28739-2-ND; Supplier 2: Digi-Key; Supplier Part Number 2: 296-28739-1-ND; Supplier 3: Digi-Key; Supplier Part Number 3: 296-28739-6-ND; Supplier 4: Mouser; Supplier Part Number 4: 595-SN75DP130DSRGZR; No. of DisplayPort Dual Mode Outputs: 1; SubFamily: DisplayPort; Mounting Technology: Surface Mount; Code_JEDEC: MO-220; ComponentLink1Description: Datasheet; ComponentLink1URL: http://www.ti.com/general/docs/lit/getliterature.tsp?genericPartNumber=SN75DP130&fileType=pdf
footprint RGZ48-5600X5600TP (QFN, 48-Leads, Body 7x7mm, Pitch 0.5mm, Thermal Pad 5.6x5.6mm, TI Recommended)
part A pins: 3 ADDR_EQ (in) "I2C Target Address Select and EQ Configuration Input. If the I2C bus is used, this input setting selects the I2C target address, as described in Table 7. This input also configures the input EQ to the device, as described in Table 5.", 4 SCL_CTL (io) "Bidirectional I2C interface to configure the SN75DP130. This interface is active", 5 SDA_CTL (io) "Bidirectional I2C interface to configure the SN75DP130. This interface is active", 8 CAD_SRC (out) "DP Cable Adapter Detect Output. This output typically drives the GPU CAD input.", 9 HPD_SRC (out) "Hot Plug Detect Output to the DisplayPort Source.", 10 CAD_SNK (in) "DisplayPort Cable Adapter Detect Input. This input tolerates a 5V supply with a supply impedance higher than 90kohm. [See Datasheet]", 11 HPD_SNK (in) "DisplayPort Cable Adapter Detect Input. This input tolerates a 5V supply with a supply impedance higher than 90kohm. [See Datasheet]", 13 OUT3N (hiz) "DisplayPort Main Link Lane 3 Differential Output", 14 OUT3P (hiz) "DisplayPort Main Link Lane 3 Differential Output", 16 OUT2N (hiz) "DisplayPort Main Link Lane 2 Differential Output", 17 OUT2P (hiz) "DisplayPort Main Link Lane 2 Differential Output", 19 OUT1N (hiz) "DisplayPort Main Link Lane 1 Differential Output", 20 OUT1P (hiz) "DisplayPort Main Link Lane 1 Differential Output", 22 OUT0N (hiz) "DisplayPort Main Link Lane 0 Differential Output", 23 OUT0P (hiz) "DisplayPort Main Link Lane 0 Differential Output", 26 EN (in) "Device Enable. This input incorporates an internal pullup of 200k ohm.", 27 AUX_SNKN (io) "Sink Side Bidirectional DisplayPort Auxiliary Data Channel.", 28 AUX_SNKP (io) "Sink Side Bidirectional DisplayPort Auxiliary Data Channel.", 29 AUX_SRCN (io) "Source Side Bidirectional DisplayPort Auxiliary Data Channel. If the AUX_SNK channel is used for monitoring only, these signals are not used and may be left open.", 30 AUX_SRCP (io) "Source Side Bidirectional DisplayPort Auxiliary Data Channel. If the AUX_SNK channel is used for monitoring only, these signals are not used and may be left open.", 33 SCL_DDC (io) "Bidirectional I2C Display Data Channel (DDC) for TMDS mode.[See Datasheet]", 34 SDA_DDC (io) "Bidirectional I2C Display Data Channel (DDC) for TMDS mode.[See Datasheet]", 35 RSTN (in) "Active Low Device Reset. This input includes a 150k ohm resistor to the VDDD core supply. An external capacitor to GND is recommended on the RSTN input to provide a power-up delay.[See Datasheet]", 38 IN0P (in) "DisplayPort Main Link Lane 0 Differential Input", 39 IN0N (in) "DisplayPort Main Link Lane 0 Differential Input", 41 IN1P (in) "DisplayPort Main Link Lane 1 Differential Input", 42 IN1N (in) "DisplayPort Main Link Lane 1 Differential Input", 44 IN2P (in) "DisplayPort Main Link Lane 2 Differential Input", 45 IN2N (in) "DisplayPort Main Link Lane 2 Differential Input", 47 IN3P (in) "DisplayPort Main Link Lane 3 Differential Input", 48 IN3N (in) "DisplayPort Main Link Lane 3 Differential Input"
part B pins: 1 VCC (power) "3.3V Supply", 2 VDDD_DREG (power) "Treat same as VDDD; this pin will be most noisy of all VDDD terminals and needs a de-coupling capacitor nearby.", 6 VDDD (power) "Digital low voltage core and Main Link supply for SN75DP130DS device option. Nominally 1.1V.", 7 NC "No Connect. These terminals may be left unconnected, or connect to GND.", 12 VDDD (power) "Digital low voltage core and Main Link supply for SN75DP130DS device option. Nominally 1.1V.", 15 VDDD (power) "Digital low voltage core and Main Link supply for SN75DP130DS device option. Nominally 1.1V.", 18 GND (power) "Ground. Reference GND connections include the device package exposed thermal pad.", 21 VDDD (power) "Digital low voltage core and Main Link supply for SN75DP130DS device option. Nominally 1.1V.", 24 GND (power) "Ground. Reference GND connections include the device package exposed thermal pad.", 25 VDDD (power) "Digital low voltage core and Main Link supply for SN75DP130DS device option. Nominally 1.1V.", 31 GND (power) "Ground. Reference GND connections include the device package exposed thermal pad.", 32 VDDD (power) "Digital low voltage core and Main Link supply for SN75DP130DS device option. Nominally 1.1V.", 36 VCC (power) "3.3V Supply", 37 VDDD (power) "Digital low voltage core and Main Link supply for SN75DP130DS device option. Nominally 1.1V.", 40 NC "No Connect. These terminals may be left unconnected, or connect to GND.", 43 VDDD (power) "Digital low voltage core and Main Link supply for SN75DP130DS device option. Nominally 1.1V.", 46 NC "No Connect. These terminals may be left unconnected, or connect to GND.", 49 EP (power) "Exposed Pad"

## SN75DP130DSRGZT
designator U?
DisplayPort v1.2 (5.4Gbps) Re-Driver with Link Training, 0 to +85 degC, 48-pin VQFN (RGZ), Green (RoHS & no Sb/Br); Manufacturer: Texas Instruments; PartNumber: SN75DP130DSRGZT; No. of DisplayPort Dual Mode Inputs: 1; DatasheetVersion: SLLSE57B; PackageVersion: revF, Jun-2011; PackageReference: RGZ48-5600X5600TP; PackageDescription: 48-Pin Plastic Quad Flatpack No-Lead, 7 x 7 mm Body, 0.5 mm Pitch; Supplier 1: Digi-Key; Supplier Part Number 1: SN75DP130DSRGZT-ND; Supplier 2: Mouser; Supplier Part Number 2: 595-SN75DP130DSRGZT; No. of DisplayPort Dual Mode Outputs: 1; SubFamily: DisplayPort; Mounting Technology: Surface Mount; Code_JEDEC: MO-220; ComponentLink1Description: Datasheet; ComponentLink1URL: http://www.ti.com/general/docs/lit/getliterature.tsp?genericPartNumber=SN75DP130&fileType=pdf
footprint RGZ48-5600X5600TP (QFN, 48-Leads, Body 7x7mm, Pitch 0.5mm, Thermal Pad 5.6x5.6mm, TI Recommended)
part A pins: 3 ADDR_EQ (in) "I2C Target Address Select and EQ Configuration Input. If the I2C bus is used, this input setting selects the I2C target address, as described in Table 7. This input also configures the input EQ to the device, as described in Table 5.", 4 SCL_CTL (io) "Bidirectional I2C interface to configure the SN75DP130. This interface is active", 5 SDA_CTL (io) "Bidirectional I2C interface to configure the SN75DP130. This interface is active", 8 CAD_SRC (out) "DP Cable Adapter Detect Output. This output typically drives the GPU CAD input.", 9 HPD_SRC (out) "Hot Plug Detect Output to the DisplayPort Source.", 10 CAD_SNK (in) "DisplayPort Cable Adapter Detect Input. This input tolerates a 5V supply with a supply impedance higher than 90kohm. [See Datasheet]", 11 HPD_SNK (in) "DisplayPort Cable Adapter Detect Input. This input tolerates a 5V supply with a supply impedance higher than 90kohm. [See Datasheet]", 13 OUT3N (hiz) "DisplayPort Main Link Lane 3 Differential Output", 14 OUT3P (hiz) "DisplayPort Main Link Lane 3 Differential Output", 16 OUT2N (hiz) "DisplayPort Main Link Lane 2 Differential Output", 17 OUT2P (hiz) "DisplayPort Main Link Lane 2 Differential Output", 19 OUT1N (hiz) "DisplayPort Main Link Lane 1 Differential Output", 20 OUT1P (hiz) "DisplayPort Main Link Lane 1 Differential Output", 22 OUT0N (hiz) "DisplayPort Main Link Lane 0 Differential Output", 23 OUT0P (hiz) "DisplayPort Main Link Lane 0 Differential Output", 26 EN (in) "Device Enable. This input incorporates an internal pullup of 200k ohm.", 27 AUX_SNKN (io) "Sink Side Bidirectional DisplayPort Auxiliary Data Channel.", 28 AUX_SNKP (io) "Sink Side Bidirectional DisplayPort Auxiliary Data Channel.", 29 AUX_SRCN (io) "Source Side Bidirectional DisplayPort Auxiliary Data Channel. If the AUX_SNK channel is used for monitoring only, these signals are not used and may be left open.", 30 AUX_SRCP (io) "Source Side Bidirectional DisplayPort Auxiliary Data Channel. If the AUX_SNK channel is used for monitoring only, these signals are not used and may be left open.", 33 SCL_DDC (io) "Bidirectional I2C Display Data Channel (DDC) for TMDS mode.[See Datasheet]", 34 SDA_DDC (io) "Bidirectional I2C Display Data Channel (DDC) for TMDS mode.[See Datasheet]", 35 RSTN (in) "Active Low Device Reset. This input includes a 150k ohm resistor to the VDDD core supply. An external capacitor to GND is recommended on the RSTN input to provide a power-up delay.[See Datasheet]", 38 IN0P (in) "DisplayPort Main Link Lane 0 Differential Input", 39 IN0N (in) "DisplayPort Main Link Lane 0 Differential Input", 41 IN1P (in) "DisplayPort Main Link Lane 1 Differential Input", 42 IN1N (in) "DisplayPort Main Link Lane 1 Differential Input", 44 IN2P (in) "DisplayPort Main Link Lane 2 Differential Input", 45 IN2N (in) "DisplayPort Main Link Lane 2 Differential Input", 47 IN3P (in) "DisplayPort Main Link Lane 3 Differential Input", 48 IN3N (in) "DisplayPort Main Link Lane 3 Differential Input"
part B pins: 1 VCC (power) "3.3V Supply", 2 VDDD_DREG (power) "Treat same as VDDD; this pin will be most noisy of all VDDD terminals and needs a de-coupling capacitor nearby.", 6 VDDD (power) "Digital low voltage core and Main Link supply for SN75DP130DS device option. Nominally 1.1V.", 7 NC "No Connect. These terminals may be left unconnected, or connect to GND.", 12 VDDD (power) "Digital low voltage core and Main Link supply for SN75DP130DS device option. Nominally 1.1V.", 15 VDDD (power) "Digital low voltage core and Main Link supply for SN75DP130DS device option. Nominally 1.1V.", 18 GND (power) "Ground. Reference GND connections include the device package exposed thermal pad.", 21 VDDD (power) "Digital low voltage core and Main Link supply for SN75DP130DS device option. Nominally 1.1V.", 24 GND (power) "Ground. Reference GND connections include the device package exposed thermal pad.", 25 VDDD (power) "Digital low voltage core and Main Link supply for SN75DP130DS device option. Nominally 1.1V.", 31 GND (power) "Ground. Reference GND connections include the device package exposed thermal pad.", 32 VDDD (power) "Digital low voltage core and Main Link supply for SN75DP130DS device option. Nominally 1.1V.", 36 VCC (power) "3.3V Supply", 37 VDDD (power) "Digital low voltage core and Main Link supply for SN75DP130DS device option. Nominally 1.1V.", 40 NC "No Connect. These terminals may be left unconnected, or connect to GND.", 43 VDDD (power) "Digital low voltage core and Main Link supply for SN75DP130DS device option. Nominally 1.1V.", 46 NC "No Connect. These terminals may be left unconnected, or connect to GND.", 49 EP (power) "Exposed Pad"